# Altium schematic symbol library SIL8.SchLib: 1 symbol
Pins are listed as number, name and electrical type; pins without a type are passive.

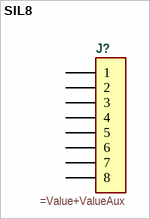
[diagram p0: symbol SIL8]

## SIL8
designator J?
=Description
pins: 1, 2, 3, 4, 5, 6, 7, 8